# EAGLE library part ATMEGA328P-AU (library HyTechDevices - Capacitors)
ATmega328P Datasheet <https://www.mouser.com/datasheet/2/268/ATmega48A_PA_88A_PA_168A_PA_328_P_DS_DS40002061B-1900559.pdf>
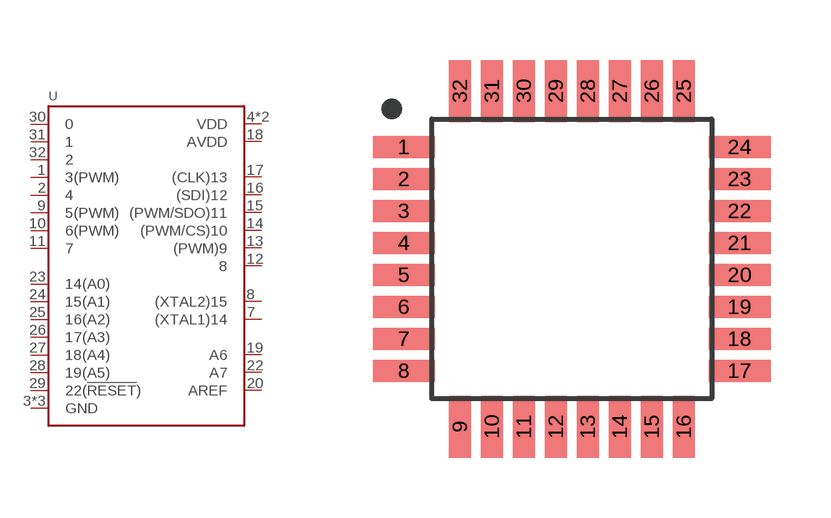
[diagram p5: symbol with the pads of TQFP-32; footprint TQFP-32]

Designator prefix U

## ATMEGA328P-AU (DKPN: ATMEGA328P-AURCT-ND; MANUFACTURER: Microchip Technology; MOPN: 556-ATMEGA328P-AU; MPN: ATMEGA328P-AU)  [TQFP-32]
1  3(PWM)
2  4
3  GND  pwr
4  VDD  pwr
5  GND  pwr
6  VDD  pwr
7  (XTAL1)14
8  (XTAL2)15
9  5(PWM)
10  6(PWM)
11  7
12  8
13  (PWM)9
14  (PWM/CS)10
15  (PWM/SDO)11
16  (SDI)12
17  (CLK)13
18  AVDD  pwr
19  A6
20  AREF  in
21  GND  pwr
22  A7
23  14(A0)
24  15(A1)
25  16(A2)
26  17(A3)
27  18(A4)
28  19(A5)
29  22(!RESET!)
30  0
31  1
32  2

## Footprint TQFP-32 (pad centres in mm)
TQFP 32 7x7 mm Datasheet <https://www.analog.com/media/en/package-pcb-resources/package/pkg_pdf/ltc-legacy-tqfp/TQFP_32_05-08-1735.pdf>
smd 1.55 x 0.55: 1 -4.2,2.8; 2 -4.2,2; 3 -4.2,1.2; 4 -4.2,0.4; 5 -4.2,-0.4; 6 -4.2,-1.2; 7 -4.2,-2; 8 -4.2,-2.8; 17 4.2,-2.8; 18 4.2,-2; 19 4.2,-1.2; 20 4.2,-0.4; 21 4.2,0.4; 22 4.2,1.2; 23 4.2,2; 24 4.2,2.8
smd 0.55 x 1.55: 9 -2.8,-4.2; 10 -2,-4.2; 11 -1.2,-4.2; 12 -0.4,-4.2; 13 0.4,-4.2; 14 1.2,-4.2; 15 2,-4.2; 16 2.8,-4.2; 25 2.8,4.2; 26 2,4.2; 27 1.2,4.2; 28 0.4,4.2; 29 -0.4,4.2; 30 -1.2,4.2; 31 -2,4.2; 32 -2.8,4.2